# Altium integrated library Ceramic Capacitors 0805 50V.IntLib: 7 symbols
Pins are listed as number, name and electrical type; pins without a type are passive.

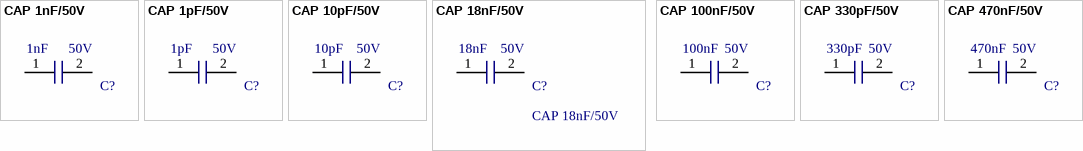
[diagram p0: symbols CAP 1nF/50V to CAP 470nF/50V]

## CAP 1nF/50V
designator C?  Voltage: 50V  Capacitance: 1nF  (hidden comment: CAP 1nF/50V)
1000pF ±1% 50V Ceramic Capacitor C0G, NP0 0805 (2012 Metric); Manufacturer 1: Murata Electronics North America; Manufacturer 1 PN: GRM2165C1H102FA01D; Digikey PN: 490-6441-1-ND; Mouser PN: 81-GRM2165C1H102FA01; ComponentLink1Description: Datasheet; ComponentLink1URL: https://www.murata.com/~/media/webrenewal/support/library/catalog/products/capacitor/mlcc/c02e.ashx?la=en-us
footprint CAP 1nF/50V (1000pF ±1% 50V Ceramic Capacitor C0G, NP0 0805 (2012 Metric))
pins: 1, 2

## CAP 1pF/50V
designator C?  Voltage: 50V  Capacitance: 1pF  (hidden comment: CAP 1pF/50V)
1pF ±0.1pF 50V Ceramic Capacitor C0G, NP0 0805 (2012 Metric); Manufacturer 1: Yageo; Manufacturer 1 PN: CC0805BRNPO9BN1R0; Digikey PN: 311-4124-1-ND; Mouser PN: 603-CC805BRNPO9BN1R0; ComponentLink1Description: Datasheet; ComponentLink1URL: http://www.yageo.com/documents/recent/UPY-GP_NP0_16V-to-50V_16.pdf
footprint CAP 1pF/50V (1pF ±0.1pF 50V Ceramic Capacitor C0G, NP0 0805 (2012 Metric))
pins: 1, 2

## CAP 10pF/50V
designator C?  Voltage: 50V  Capacitance: 10pF  (hidden comment: CAP 10pF/50V)
10pF ±1% 50V Ceramic Capacitor C0G, NP0 0805 (2012 Metric); Manufacturer 1: Yageo; Manufacturer 1 PN: CC0805FRNPO9BN100; Digikey PN: 311-4160-1-ND; Mouser PN: 603-CC805FRNPO9BN100; ComponentLink1Description: Datasheet; ComponentLink1URL: http://www.yageo.com/documents/recent/UPY-GP_NP0_16V-to-50V_16.pdf
footprint CAP 10pF/50V (10pF ±1% 50V Ceramic Capacitor C0G, NP0 0805 (2012 Metric))
pins: 1, 2

## CAP 18nF/50V
designator C?  Voltage: 50V  Capacitance: 18nF
0.018µF ±10% 50V Ceramic Capacitor X7R 0805 (2012 Metric); Manufacturer 1: Samsung Electro-Mechanics; Manufacturer 1 PN: CL21B183KBANFNC; ComponentLink1Description: Specifications; ComponentLink1URL: http://www.samsungsem.com/kr/support/product-search/mlcc/__icsFiles/afieldfile/2018/07/23/CL21B183KBANFNC.pdf; Digikey PN: 1276-2467-1-ND; Mouser PN: 581-08055A180J4T2A
footprint CAP 18nF/50V (0.018µF ±10% 50V Ceramic Capacitor X7R 0805 (2012 Metric))
pins: 1, 2

## CAP 100nF/50V
designator C?  Voltage: 50V  Capacitance: 100nF  (hidden comment: CAP 100nF/50V)
0.1µF ±5% 50V Ceramic Capacitor X7R 0805 (2012 Metric); Manufacturer 1: Yageo; Manufacturer 1 PN: CC0805JRX7R9BB104; Digikey PN: 311-1858-1-ND; Mouser PN: 603-CC805JRX7R9BB104; ComponentLink1Description: Datasheet; ComponentLink1URL: http://www.yageo.com/documents/recent/UPY-GPHC_X7R_6.3V-to-50V_18.pdf
footprint CAP 100nF/50V (0.1µF ±5% 50V Ceramic Capacitor X7R 0805 (2012 Metric))
pins: 1, 2

## CAP 330pF/50V
designator C?  Voltage: 50V  Capacitance: 330pF  (hidden comment: CAP 330pF/50V)
330pF ±1% 50V Ceramic Capacitor C0G, NP0 0805 (2012 Metric); Manufacturer 1: Yageo; Manufacturer 1 PN: CC0805FRNPO9BN331; Digikey PN: 311-4176-1-ND; Mouser PN: 603-CC805FRNPO9BN331; ComponentLink1Description: Datasheet; ComponentLink1URL: http://www.yageo.com/documents/recent/UPY-GP_NP0_16V-to-50V_16.pdf
footprint CAP 330pF/50V (330pF ±1% 50V Ceramic Capacitor C0G, NP0 0805 (2012 Metric))
pins: 1, 2

## CAP 470nF/50V
designator C?  Voltage: 50V  Capacitance: 470nF  (hidden comment: CAP 470nF/50V)
0.47µF ±10% 50V Ceramic Capacitor X7R 0805 (2012 Metric); Manufacturer 1: Murata Electronics North America; Manufacturer 1 PN: GRM21BR71H474KA88K; Digikey PN: 490-8319-1-ND; Mouser PN: 81-GRM21BR71H474KA8K; ComponentLink1Description: Datasheet; ComponentLink1URL: https://search.murata.co.jp/Ceramy/image/img/A01X/G101/ENG/GRM21BR71H474KA88-01.pdf
footprint CAP 470nF/50V (0.47µF ±10% 50V Ceramic Capacitor X7R 0805 (2012 Metric))
pins: 1, 2